# Altium footprint library SOIC-10(7.5X10.3).PcbLib: 1 footprints
Each footprint in its own frame and in the unit in brackets; x right, y up, seen from the top. Pads: shape width x height; smd on the part's side, far side on the other; paste and mask are expansions set on the pad; w line width, h text height; cw(c..) or ccw(c..) is an arc to the next point about the centre after c.
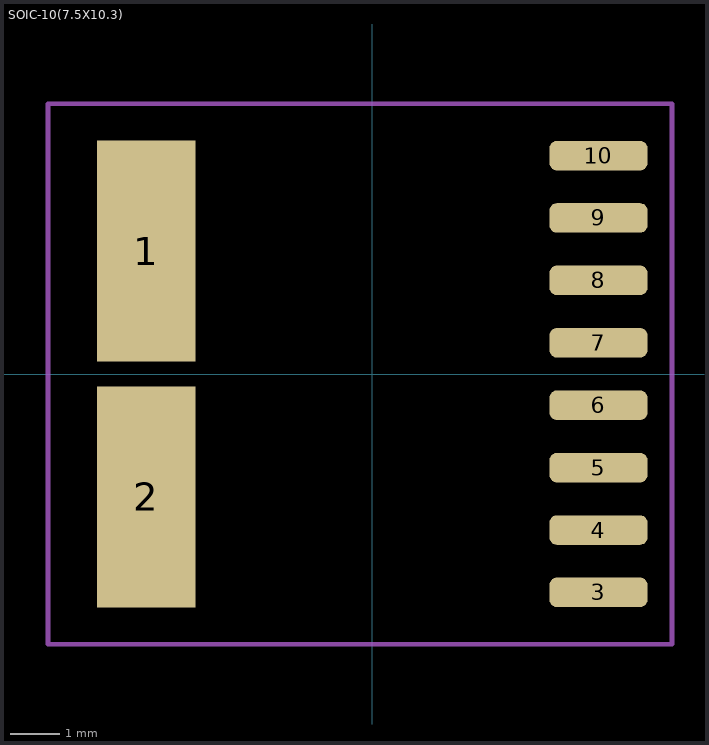
[diagram p0: the footprint, top view; thin cyan lines are the x and y axes]

## SOIC-10(7.5X10.3) [mm]
pads (10):
  rect 2x4.5 smd: 1(-4.6,2.5) 2(-4.6,-2.5)
  rrect50% 2x0.6 smd: 3(4.6,-4.445) 4(4.6,-3.175) 5(4.6,-1.905) 6(4.6,-0.635) 7(4.6,0.635) 8(4.6,1.905) 9(4.6,3.175) 10(4.6,4.445)
Top Courtyard:
  lines w0.1: -6.6,-5.5 -6.6,5.5 6.1,5.5 6.1,-5.5 -6.6,-5.5
3D body: height 2.6, standoff 0, extent -3.8,-5.25 3.8,5.25